# EAGLE library part SC16IS740 (library Traficon)
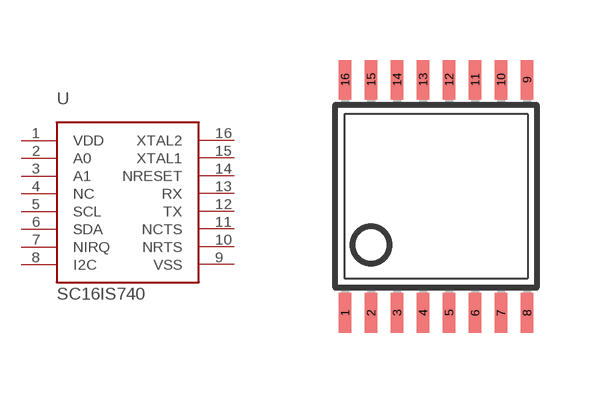
[diagram p248: symbol with the pads of TSSOP16; footprint TSSOP16]

Designator prefix U

## SC16IS740  [TSSOP16]
1  VDD
2  A0
3  A1
4  NC
5  SCL
6  SDA
7  NIRQ
8  I2C
9  VSS
10  NRTS
11  NCTS
12  TX
13  RX
14  NRESET
15  XTAL1
16  XTAL2

## Footprint TSSOP16 (pad centres in mm)
Thin Shrink Small Outline Plastic 16 http://www.maxim-ic.com .. MAX3223-MAX3243.pdf
smd 0.305 x 0.991: 1 -2.275,-2.918; 2 -1.625,-2.918; 3 -0.975,-2.918; 4 -0.325,-2.918; 5 0.325,-2.918; 6 0.975,-2.918; 7 1.625,-2.918; 8 2.275,-2.918; 9 2.275,2.918; 10 1.625,2.918; 11 0.975,2.918; 12 0.325,2.918; 13 -0.325,2.918; 14 -0.975,2.918; 15 -1.625,2.918; 16 -2.275,2.918